# EAGLE library part WE-PPTI_EPX6 (library WE-PPTI)
WE-PPTI Push-Pull Transformers Characteristics Small size Surface mount Low profile Operating temp: -40°C to 125°C Functional or Reinforced Insulation Applications Isolated interface power supply for CAN, RS-485, RS-422, RS-232, SPI, I2C, lower-power LAN Industrial automation Process control Medical equipment PLC analog and digital I/O modules Isolated gate driver power supplies AC motor drives Uninterruptible power supplies (UPS) Solar inverters Polyphase energy meters Protection relays and IEDs <https://www.we-online.com/components/media/o715993v209%20Family-PPTI.jpg> Details see: www.we-online.com/en/components/products/WE-PPTI <www.we-online.com/catalog/WE-PPTI/?utm_source=eagle_model&utm_medium=description_link&utm_campaign=eisos_eagle> Created by Ella Wu 2025-11-10 2025 (C) Würth Elektronik
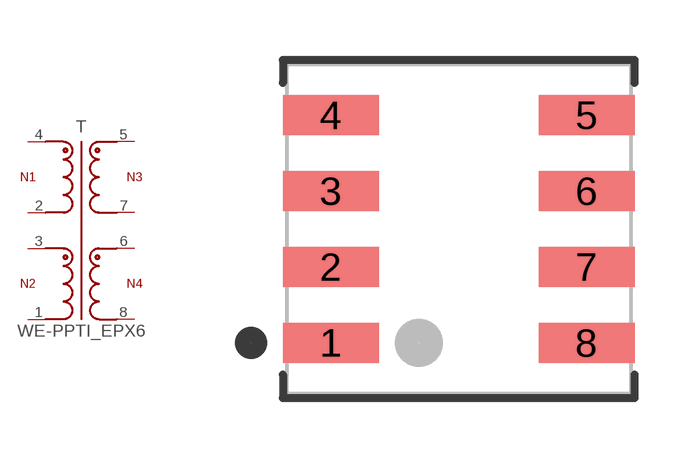
[diagram p1: symbol with the pads of WE-PPTI_EPX6_L8.6W8.26H9.65; footprint WE-PPTI_EPX6_L8.6W8.26H9.65]

Designator prefix T

## WE-PPTI_EPX6_750320375_L8.6W8.26H9.65 (DATASHEET-URL: https://www.we-online.com/redexpert/spec/750320375?ae; FSWITCH: 300 - 1000kHz; HEIGHT: 9.65 mm; IOUT1: 700 mA; L: 200 uH; LENGTH: 8.6 mm; MOUNT: SMT; N: 1.36:1; PART-NUMBER: 750320375; SIZE: EPX6; TYPE-OF-INSULATION: Functional; VALUE: 750320375; VIN: 24 V; VOLTAGE-TIME: 124 Vus; VOUT1: 15 V (DC); VT: 2500 V (AC); WIDTH: 8.26 mm), WE-PPTI_EPX6_750320383_L8.6W8.26H9.65 (DATASHEET-URL: https://www.we-online.com/redexpert/spec/750320383?ae; FSWITCH: 200 - 1000kHz; HEIGHT: 9.65 mm; IOUT1: 350 mA; L: 750 uH; LENGTH: 8.6 mm; MOUNT: SMT; N: 1:1.4; PART-NUMBER: 750320383; SIZE: EPX6; TYPE-OF-INSULATION: Functional; VALUE: 750320383; VIN: 24 V; VOLTAGE-TIME: 124 Vus; VOUT1: 30 V (DC); VT: 2500 V (AC); WIDTH: 8.26 mm), WE-PPTI_EPX6_750320396_L8.6W8.26H9.65 (DATASHEET-URL: https://www.we-online.com/redexpert/spec/750320396?ae; FSWITCH: 200 - 1000kHz; HEIGHT: 9.65 mm; IOUT1: 1400 mA; L: 350 uH; LENGTH: 8.6 mm; MOUNT: SMT; N: 2.4:1; PART-NUMBER: 750320396; SIZE: EPX6; TYPE-OF-INSULATION: Functional; VALUE: 750320396; VIN: 12 V; VOLTAGE-TIME: 100 Vus; VOUT1: 3.3 V (DC); VT: 2500 V (AC); WIDTH: 8.26 mm), WE-PPTI_EPX6_750320397_L8.6W8.26H9.65 (DATASHEET-URL: https://www.we-online.com/redexpert/spec/750320397?ae; FSWITCH: 200 - 1000kHz; HEIGHT: 9.65 mm; IOUT1: 1300 mA; L: 350 uH; LENGTH: 8.6 mm; MOUNT: SMT; N: 1.71:1; PART-NUMBER: 750320397; SIZE: EPX6; TYPE-OF-INSULATION: Functional; VALUE: 750320397; VIN: 12 V; VOLTAGE-TIME: 100 Vus; VOUT1: 5 V (DC); VT: 2500 V (AC); WIDTH: 8.26 mm), WE-PPTI_EPX6_750320398_L8.6W8.26H9.65 (DATASHEET-URL: https://www.we-online.com/redexpert/spec/750320398?ae; FSWITCH: 200 - 1000kHz; HEIGHT: 9.65 mm; IOUT1: 750 mA; L: 200 uH; LENGTH: 8.6 mm; MOUNT: SMT; N: 1:1.22; PART-NUMBER: 750320398; SIZE: EPX6; TYPE-OF-INSULATION: Functional; VALUE: 750320398; VIN: 12 V; VOLTAGE-TIME: 74 Vus; VOUT1: 12 V (DC); VT: 2500 V (AC); WIDTH: 8.26 mm), WE-PPTI_EPX6_750320399_L8.6W8.26H9.65 (DATASHEET-URL: https://www.we-online.com/redexpert/spec/750320399?ae; FSWITCH: 200 - 1000kHz; HEIGHT: 9.65 mm; IOUT1: 700 mA; L: 200 uH; LENGTH: 8.6 mm; MOUNT: SMT; N: 1:1.44; PART-NUMBER: 750320399; SIZE: EPX6; TYPE-OF-INSULATION: Functional; VALUE: 750320399; VIN: 12 V; VOLTAGE-TIME: 74 Vus; VOUT1: 15 V (DC); VT: 2500 V (AC); WIDTH: 8.26 mm), WE-PPTI_EPX6_750320400_L8.6W8.26H9.65 (DATASHEET-URL: https://www.we-online.com/redexpert/spec/750320400?ae; FSWITCH: 200 - 1000kHz; HEIGHT: 9.65 mm; IOUT1: 450 mA; L: 200 uH; LENGTH: 8.6 mm; MOUNT: SMT; N: 1:2.33; PART-NUMBER: 750320400; SIZE: EPX6; TYPE-OF-INSULATION: Functional; VALUE: 750320400; VIN: 12 V; VOLTAGE-TIME: 74 Vus; VOUT1: 24 V (DC); VT: 2500 V (AC); WIDTH: 8.26 mm), WE-PPTI_EPX6_750320401_L8.6W8.26H9.65 (DATASHEET-URL: https://www.we-online.com/redexpert/spec/750320401?ae; FSWITCH: 200 - 1000kHz; HEIGHT: 9.65 mm; IOUT1: 350 mA; L: 200 uH; LENGTH: 8.6 mm; MOUNT: SMT; N: 1:2.89; PART-NUMBER: 750320401; SIZE: EPX6; TYPE-OF-INSULATION: Functional; VALUE: 750320401; VIN: 12 V; VOLTAGE-TIME: 74 Vus; VOUT1: 30 V (DC); VT: 2500 V (AC); WIDTH: 8.26 mm), WE-PPTI_EPX6_750320402_L8.6W8.26H9.65 (DATASHEET-URL: https://www.we-online.com/redexpert/spec/750320402?ae; FSWITCH: 200 - 1000kHz; HEIGHT: 9.65 mm; IOUT1: 1600 mA; L: 700 uH; LENGTH: 8.6 mm; MOUNT: SMT; N: 5.33:1; PART-NUMBER: 750320402; SIZE: EPX6; TYPE-OF-INSULATION: Functional; VALUE: 750320402; VIN: 24 V; VOLTAGE-TIME: 130 Vus; VOUT1: 3.3 V (DC); VT: 2500 V (AC); WIDTH: 8.26 mm), WE-PPTI_EPX6_750320403_L8.6W8.26H9.65 (DATASHEET-URL: https://www.we-online.com/redexpert/spec/750320403?ae; FSWITCH: 200 - 1000kHz; HEIGHT: 9.65 mm; IOUT1: 1400 mA; L: 750 uH; LENGTH: 8.6 mm; MOUNT: SMT; N: 3.6:1; PART-NUMBER: 750320403; SIZE: EPX6; TYPE-OF-INSULATION: Functional; VALUE: 750320403; VIN: 24 V; VOLTAGE-TIME: 150 Vus; VOUT1: 5 V (DC); VT: 2500 V (AC); WIDTH: 8.26 mm), WE-PPTI_EPX6_750320404_L8.6W8.26H9.65 (DATASHEET-URL: https://www.we-online.com/redexpert/spec/750320404?ae; FSWITCH: 200 - 1000kHz; HEIGHT: 9.65 mm; IOUT1: 900 mA; L: 600 uH; LENGTH: 8.6 mm; MOUNT: SMT; N: 1.78:1; PART-NUMBER: 750320404; SIZE: EPX6; TYPE-OF-INSULATION: Functional; VALUE: 750320404; VIN: 24 V; VOLTAGE-TIME: 132 Vus; VOUT1: 12 V (DC); VT: 2500 V (AC); WIDTH: 8.26 mm), WE-PPTI_EPX6_750320405_L8.6W8.26H9.65 (DATASHEET-URL: https://www.we-online.com/redexpert/spec/750320405?ae; FSWITCH: 250 - 1200kHz; HEIGHT: 9.65 mm; IOUT1: 500 mA; L: 600 uH; LENGTH: 8.6 mm; MOUNT: SMT; N: 1:1.13; PART-NUMBER: 750320405; SIZE: EPX6; TYPE-OF-INSULATION: Functional; VALUE: 750320405; VIN: 24 V; VOLTAGE-TIME: 124 Vus; VOUT1: 24 V (DC); VT: 2500 V (AC); WIDTH: 8.26 mm), WE-PPTI_EPX6_750320528_L8.6W8.26H9.65 (DATASHEET-URL: https://www.we-online.com/redexpert/spec/750320528?ae; FSWITCH: 250 - 600kHz; HEIGHT: 9.65 mm; IOUT1: 700 mA; L: 165 uH; LENGTH: 8.6 mm; MOUNT: SMT; N: 1:1.38; PART-NUMBER: 750320528; SIZE: EPX6; TYPE-OF-INSULATION: Functional; VALUE: 750320528; VIN: 15 V; VOLTAGE-TIME: 50 Vus; VOUT1: 19.5 V (DC); VT: 2500 V (AC); WIDTH: 8.26 mm)  [WE-PPTI_EPX6_L8.6W8.26H9.65]
1  1  pas
2  2  pas
3  3  pas
4  4  pas
5  5  pas
6  6  pas
7  7  pas
8  8  pas

## Footprint WE-PPTI_EPX6_L8.6W8.26H9.65 (pad centres in mm)
WE-PPTI Push-Pull Transformers Size: EPX6, SMT, 8pins LXWXH=8.6X8.26X9.65mm
smd 2.4 x 1.01: 1 -3.2,-2.85; 2 -3.2,-0.95; 3 -3.2,0.95; 4 -3.2,2.85; 5 3.2,2.85; 6 3.2,0.95; 7 3.2,-0.95; 8 3.2,-2.85